# Altium footprint library libAaron.PcbLib: 2 footprints
Each footprint in its own frame and in the unit in brackets; x right, y up, seen from the top. Pads: shape width x height; smd on the part's side, far side on the other; paste and mask are expansions set on the pad; w line width, h text height; cw(c..) or ccw(c..) is an arc to the next point about the centre after c.
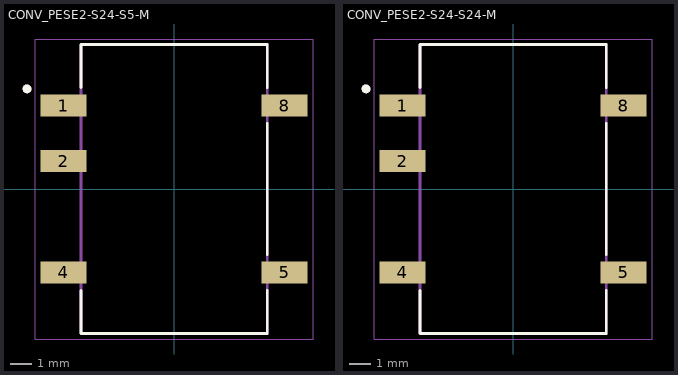
[diagram p0: the footprints below, top view; thin cyan lines are the x and y axes]

## CONV_PESE2-S24-S5-M [mm]
height 7.5
pads (5):
  rect 2.1x1 smd: 1(-5.05,3.81) 2(-5.05,1.27) 4(-5.05,-3.81) 5(5.05,-3.81) 8(5.05,3.81)
Top Overlay:
  circle w0.2: c-6.719,4.572 r0.1
  lines w0.127: -4.25,-4.63 -4.25,-6.6 4.25,-6.6 4.25,-4.63 ; -4.25,4.63 -4.25,6.6 4.25,6.6 4.25,4.63 ; 4.25,-2.99 4.25,2.99
Mechanical 13:
  circle w0.2: c-6.719,4.572 r0.1
  lines w0.127: -4.25,-6.6 4.25,-6.6 4.25,6.6 -4.25,6.6 -4.25,-6.6
Mechanical 15:
  lines w0.05: -6.35,-6.85 6.35,-6.85 6.35,6.85 -6.35,6.85 -6.35,-6.85
3D body "PESE2-S24-S5-M.step": height 7.01, standoff -0.24, extent -5.7,-6.6 5.7,6.6

## CONV_PESE2-S24-S24-M [mm]
height 7.5
pads (5):
  rect 2.1x1 smd: 1(-5.05,3.81) 2(-5.05,1.27) 4(-5.05,-3.81) 5(5.05,-3.81) 8(5.05,3.81)
Top Overlay:
  circle w0.2: c-6.719,4.572 r0.1
  lines w0.127: -4.25,-4.63 -4.25,-6.6 4.25,-6.6 4.25,-4.63 ; -4.25,4.63 -4.25,6.6 4.25,6.6 4.25,4.63 ; 4.25,-2.99 4.25,2.99
Mechanical 13:
  circle w0.2: c-6.719,4.572 r0.1
  lines w0.127: -4.25,-6.6 -4.25,6.6 4.25,6.6 4.25,-6.6 -4.25,-6.6
Mechanical 15:
  lines w0.05: -6.35,-6.85 -6.35,6.85 6.35,6.85 6.35,-6.85 -6.35,-6.85
3D body "PESE2-S24-S24-M.step": height 7.01, standoff -0.24, extent -5.7,-6.6 5.7,6.6